# EAGLE library part LM555 (library FSAE Electric)
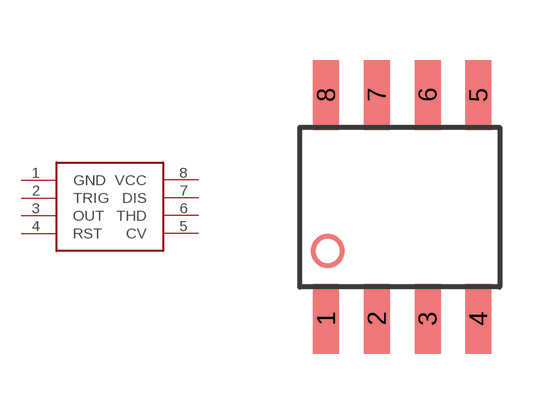
[diagram p98: symbol with the pads of 8-SOIC; footprint 8-SOIC]

Designator prefix -

## LM555LM555CMX (PARTNO: LM555CMX)  [8-SOIC]
1  GND
2  TRIG
3  OUT
4  RST
5  CV
6  THD
7  DIS
8  VCC

## Footprint 8-SOIC (pad centres in mm)
smd 0.65 x 1.75: 1 0.66,-0.79; 2 1.93,-0.79; 3 3.2,-0.79; 4 4.47,-0.79; 5 4.47,4.81; 6 3.2,4.81; 7 1.93,4.81; 8 0.66,4.81